# EAGLE library part AVX9258-PCB (library dubec)
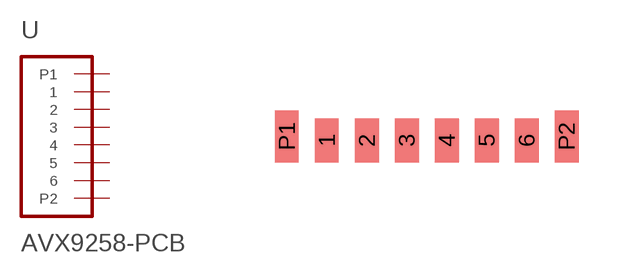
[diagram p13: symbol with the pads of AVX9258-PCB; footprint AVX9258-PCB]

Designator prefix -

## AVX9258-PCB  [AVX9258-PCB]
1  1  pas
2  2  pas
3  3  pas
4  4  pas
5  5  pas
6  6  pas
P1  P1  pas
P2  P2  pas

## Footprint AVX9258-PCB (pad centres in mm)
smd 0.6 x 1.1: 1 -2.5,0; 2 -1.5,0; 3 -0.5,0; 4 0.5,0; 5 1.5,0; 6 2.5,0
smd 0.6 x 1.3: P1 -3.5,0.1; P2 3.5,0.1